# Altium integrated library NSC LDO.IntLib: 2590 symbols (part 47 of 64)
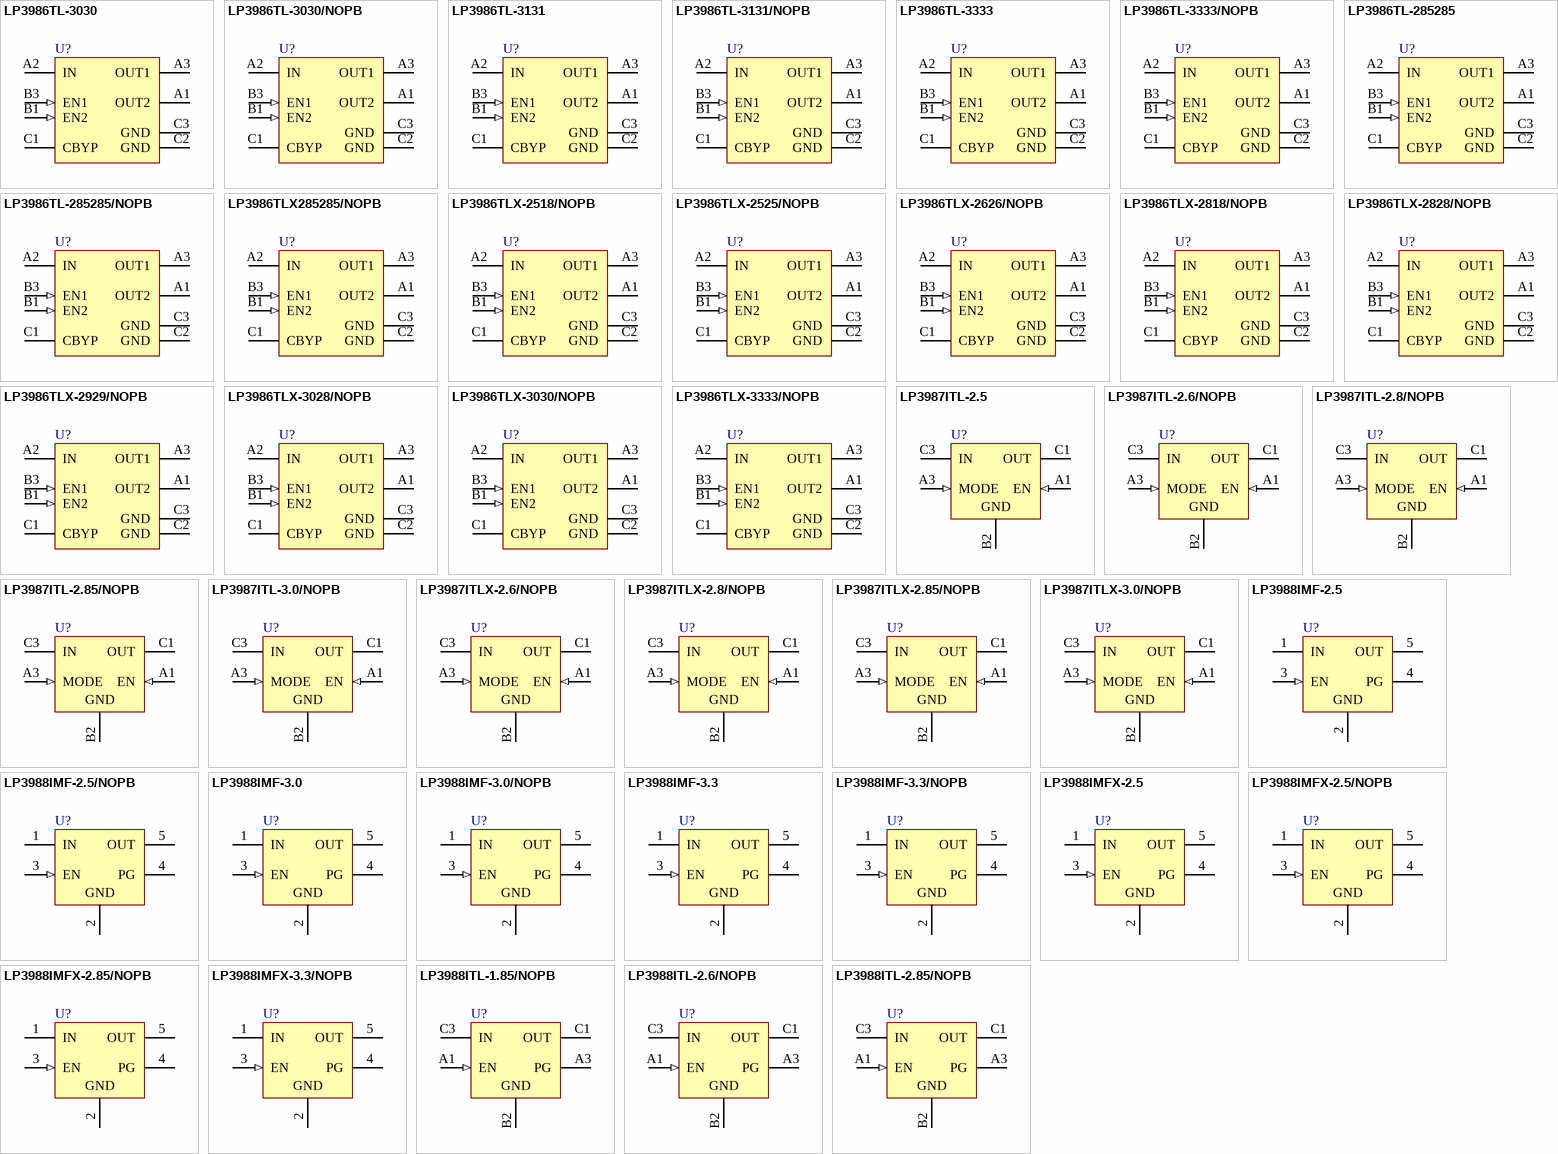
[diagram p111: symbols LP3986TL-3030 to LP3988ITL-2.85/NOPB]

## LP3986TLX-3333/NOPB
designator U?
Dual Micropower 150 mA Ultra Low-Dropout CMOS Voltage Regulators, 8-pin Micro SMD, Pb-Free; PartNumber: LP3986TLX-3333/NOPB; Manufacturer: National Semiconductor; PackageTopMarking: XVD*I 17; PowerWise: N; CompType: LDO IC; Published: 1-Mar-2010; DatasheetVersion: Feb-2007; PackageVersion: revC, Jan-2004; PackageReference: TLA08CCA; Publisher: Altium Limited; PackageDescription: Thin Micro SMD, 8 Bump (Large), 0.5mm Pitch; Supplier 1: Digi-Key; Supplier Part Number 1: LP3986TLX-3333-ND; RoHS: Y; PinCount: 8; Code_JEDEC: MO-211-DD; ComponentLink1Description: LP3986 Datasheet; ComponentLink1URL: http://www.national.com/ds/LP/LP3986.pdf; ComponentLink2Description: LP3986 Web Page; ComponentLink2URL: http://www.national.com/pf/LP/LP3986.html; ComponentLink3Description: TLA08CCA Package Page; ComponentLink3URL: http://www.national.com/packaging/folders/tla08cca.html
footprint TLA08CCA (Micro SMD, 8-Leads, Body 1.57x1.57mm, Pitch 0.5mm, NSC Recommended)
pins: A1 OUT2 (power), A2 IN (power), A3 OUT1 (power), B1 EN2 (in), B3 EN1 (in), C1 CBYP, C2 GND (power), C3 GND (power)

## LP3987ITL-2.5
designator U?
Micropower Micro SMD 150 mA Ultra Low-Dropout CMOS Voltage Regulators with Sleep MODE, 5-pin Micro SMD; PartNumber: LP3987ITL-2.5; Manufacturer: National Semiconductor; PackageTopMarking: XV*I 7; PowerWise: N; CompType: LDO IC; Published: 4-Dec-2008; DatasheetVersion: Feb-2007; PackageVersion: revC, Feb-2005; PackageReference: TLA05AEA; Publisher: Altium Limited; PackageDescription: Thin Micro SMD, 5 Bump (Large), 0.5mm Pitch; Supplier 1: Digi-Key; Supplier Part Number 1: LP3987ITL-2.5TR-ND; Supplier 2: Digi-Key; Supplier Part Number 2: LP3987ITL-2.5CT-ND; Supplier 3: Digi-Key; Supplier Part Number 3: LP3987ITL-2.5DKR-ND; RoHS: N; PinCount: 5; ComponentLink1Description: LP3987 Datasheet; ComponentLink1URL: http://www.national.com/ds/LP/LP3987.pdf; ComponentLink2Description: LP3987 Web Page; ComponentLink2URL: http://www.national.com/pf/LP/LP3987.html; ComponentLink3Description: TLA05AEA Package Page; ComponentLink3URL: http://www.national.com/packaging/folders/tla05aea.html
footprint TLA05AEA (Micro SMD, 5-Leads, Body 1.45x1.01mm, Pitch 0.5mm, NSC Recommended)
pins: A1 EN (in), A3 MODE (in), B2 GND (power), C1 OUT (power), C3 IN (power)

## LP3987ITL-2.6/NOPB
designator U?
Micropower Micro SMD 150 mA Ultra Low-Dropout CMOS Voltage Regulators with Sleep MODE, 5-pin Micro SMD, Pb-Free; PartNumber: LP3987ITL-2.6/NOPB; Manufacturer: National Semiconductor; PackageTopMarking: XV*I 7; PowerWise: Y; CompType: LDO IC; Published: 1-Mar-2010; DatasheetVersion: Feb-2007; PackageVersion: revC, Feb-2005; PackageReference: TLA05AEA; Publisher: Altium Limited; PackageDescription: Thin Micro SMD, 5 Bump (Large), 0.5mm Pitch; Supplier 1: Digi-Key; Supplier Part Number 1: LP3987ITL-2.6TR-ND; Supplier 2: Digi-Key; Supplier Part Number 2: LP3987ITL-2.6CT-ND; Supplier 3: Digi-Key; Supplier Part Number 3: LP3987ITL-2.6DKR-ND; RoHS: Y; PinCount: 5; ComponentLink1Description: LP3987 Datasheet; ComponentLink1URL: http://www.national.com/ds/LP/LP3987.pdf; ComponentLink2Description: LP3987 Web Page; ComponentLink2URL: http://www.national.com/pf/LP/LP3987.html; ComponentLink3Description: TLA05AEA Package Page; ComponentLink3URL: http://www.national.com/packaging/folders/tla05aea.html
footprint TLA05AEA (Micro SMD, 5-Leads, Body 1.45x1.01mm, Pitch 0.5mm, NSC Recommended)
pins: A1 EN (in), A3 MODE (in), B2 GND (power), C1 OUT (power), C3 IN (power)

## LP3987ITL-2.8/NOPB
designator U?
Micropower Micro SMD 150 mA Ultra Low-Dropout CMOS Voltage Regulators with Sleep MODE, 5-pin Micro SMD, Pb-Free; PartNumber: LP3987ITL-2.8/NOPB; Manufacturer: National Semiconductor; PackageTopMarking: XV*I 7; PowerWise: Y; CompType: LDO IC; Published: 1-Mar-2010; DatasheetVersion: Feb-2007; PackageVersion: revC, Feb-2005; PackageReference: TLA05AEA; Publisher: Altium Limited; PackageDescription: Thin Micro SMD, 5 Bump (Large), 0.5mm Pitch; Supplier 1: Digi-Key; Supplier Part Number 1: LP3987ITL-2.8TR-ND; Supplier 2: Digi-Key; Supplier Part Number 2: LP3987ITL-2.8CT-ND; Supplier 3: Digi-Key; Supplier Part Number 3: LP3987ITL-2.8DKR-ND; RoHS: Y; PinCount: 5; ComponentLink1Description: LP3987 Datasheet; ComponentLink1URL: http://www.national.com/ds/LP/LP3987.pdf; ComponentLink2Description: LP3987 Web Page; ComponentLink2URL: http://www.national.com/pf/LP/LP3987.html; ComponentLink3Description: TLA05AEA Package Page; ComponentLink3URL: http://www.national.com/packaging/folders/tla05aea.html
footprint TLA05AEA (Micro SMD, 5-Leads, Body 1.45x1.01mm, Pitch 0.5mm, NSC Recommended)
pins: A1 EN (in), A3 MODE (in), B2 GND (power), C1 OUT (power), C3 IN (power)

## LP3987ITL-2.85/NOPB
designator U?
Micropower Micro SMD 150 mA Ultra Low-Dropout CMOS Voltage Regulators with Sleep MODE, 5-pin Micro SMD, Pb-Free; PartNumber: LP3987ITL-2.85/NOPB; Manufacturer: National Semiconductor; PackageTopMarking: XV*I 7; PowerWise: Y; CompType: LDO IC; Published: 1-Mar-2010; DatasheetVersion: Feb-2007; PackageVersion: revC, Feb-2005; PackageReference: TLA05AEA; Publisher: Altium Limited; PackageDescription: Thin Micro SMD, 5 Bump (Large), 0.5mm Pitch; Supplier 1: Digi-Key; Supplier Part Number 1: LP3987ITL-2.85TR-ND; Supplier 2: Digi-Key; Supplier Part Number 2: LP3987ITL-2.85CT-ND; Supplier 3: Digi-Key; Supplier Part Number 3: LP3987ITL-2.85DKR-ND; RoHS: Y; PinCount: 5; ComponentLink1Description: LP3987 Datasheet; ComponentLink1URL: http://www.national.com/ds/LP/LP3987.pdf; ComponentLink2Description: LP3987 Web Page; ComponentLink2URL: http://www.national.com/pf/LP/LP3987.html; ComponentLink3Description: TLA05AEA Package Page; ComponentLink3URL: http://www.national.com/packaging/folders/tla05aea.html
footprint TLA05AEA (Micro SMD, 5-Leads, Body 1.45x1.01mm, Pitch 0.5mm, NSC Recommended)
pins: A1 EN (in), A3 MODE (in), B2 GND (power), C1 OUT (power), C3 IN (power)

## LP3987ITL-3.0/NOPB
designator U?
Micropower Micro SMD 150 mA Ultra Low-Dropout CMOS Voltage Regulators with Sleep MODE, 5-pin Micro SMD, Pb-Free; PartNumber: LP3987ITL-3.0/NOPB; Manufacturer: National Semiconductor; PackageTopMarking: XV*I 7; PowerWise: N; CompType: LDO IC; Published: 1-Mar-2010; DatasheetVersion: Feb-2007; PackageVersion: revC, Feb-2005; PackageReference: TLA05AEA; Publisher: Altium Limited; PackageDescription: Thin Micro SMD, 5 Bump (Large), 0.5mm Pitch; Supplier 1: Digi-Key; Supplier Part Number 1: LP3987ITL-3.0TR-ND; Supplier 2: Digi-Key; Supplier Part Number 2: LP3987ITL-3.0CT-ND; Supplier 3: Digi-Key; Supplier Part Number 3: LP3987ITL-3.0DKR-ND; RoHS: Y; PinCount: 5; ComponentLink1Description: LP3987 Datasheet; ComponentLink1URL: http://www.national.com/ds/LP/LP3987.pdf; ComponentLink2Description: LP3987 Web Page; ComponentLink2URL: http://www.national.com/pf/LP/LP3987.html; ComponentLink3Description: TLA05AEA Package Page; ComponentLink3URL: http://www.national.com/packaging/folders/tla05aea.html
footprint TLA05AEA (Micro SMD, 5-Leads, Body 1.45x1.01mm, Pitch 0.5mm, NSC Recommended)
pins: A1 EN (in), A3 MODE (in), B2 GND (power), C1 OUT (power), C3 IN (power)

## LP3987ITLX-2.6/NOPB
designator U?
Micropower Micro SMD 150 mA Ultra Low-Dropout CMOS Voltage Regulators with Sleep MODE, 5-pin Micro SMD, Pb-Free; PartNumber: LP3987ITLX-2.6/NOPB; Manufacturer: National Semiconductor; PackageTopMarking: XV*I 7; PowerWise: Y; CompType: LDO IC; Published: 1-Mar-2010; DatasheetVersion: Feb-2007; PackageVersion: revC, Feb-2005; PackageReference: TLA05AEA; Publisher: Altium Limited; PackageDescription: Thin Micro SMD, 5 Bump (Large), 0.5mm Pitch; Supplier 1: Digi-Key; Supplier Part Number 1: LP3987ITLX-2.6-ND; RoHS: Y; PinCount: 5; ComponentLink1Description: LP3987 Datasheet; ComponentLink1URL: http://www.national.com/ds/LP/LP3987.pdf; ComponentLink2Description: LP3987 Web Page; ComponentLink2URL: http://www.national.com/pf/LP/LP3987.html; ComponentLink3Description: TLA05AEA Package Page; ComponentLink3URL: http://www.national.com/packaging/folders/tla05aea.html
footprint TLA05AEA (Micro SMD, 5-Leads, Body 1.45x1.01mm, Pitch 0.5mm, NSC Recommended)
pins: A1 EN (in), A3 MODE (in), B2 GND (power), C1 OUT (power), C3 IN (power)

## LP3987ITLX-2.8/NOPB
designator U?
Micropower Micro SMD 150 mA Ultra Low-Dropout CMOS Voltage Regulators with Sleep MODE, 5-pin Micro SMD, Pb-Free; PartNumber: LP3987ITLX-2.8/NOPB; Manufacturer: National Semiconductor; PackageTopMarking: XV*I 7; PowerWise: Y; CompType: LDO IC; Published: 1-Mar-2010; DatasheetVersion: Feb-2007; PackageVersion: revC, Feb-2005; PackageReference: TLA05AEA; Publisher: Altium Limited; PackageDescription: Thin Micro SMD, 5 Bump (Large), 0.5mm Pitch; Supplier 1: Digi-Key; Supplier Part Number 1: LP3987ITLX-2.8-ND; RoHS: Y; PinCount: 5; ComponentLink1Description: LP3987 Datasheet; ComponentLink1URL: http://www.national.com/ds/LP/LP3987.pdf; ComponentLink2Description: LP3987 Web Page; ComponentLink2URL: http://www.national.com/pf/LP/LP3987.html; ComponentLink3Description: TLA05AEA Package Page; ComponentLink3URL: http://www.national.com/packaging/folders/tla05aea.html
footprint TLA05AEA (Micro SMD, 5-Leads, Body 1.45x1.01mm, Pitch 0.5mm, NSC Recommended)
pins: A1 EN (in), A3 MODE (in), B2 GND (power), C1 OUT (power), C3 IN (power)

## LP3987ITLX-2.85/NOPB
designator U?
Micropower Micro SMD 150 mA Ultra Low-Dropout CMOS Voltage Regulators with Sleep MODE, 5-pin Micro SMD, Pb-Free; PartNumber: LP3987ITLX-2.85/NOPB; Manufacturer: National Semiconductor; PackageTopMarking: XV*I 7; PowerWise: Y; CompType: LDO IC; Published: 1-Mar-2010; DatasheetVersion: Feb-2007; PackageVersion: revC, Feb-2005; PackageReference: TLA05AEA; Publisher: Altium Limited; PackageDescription: Thin Micro SMD, 5 Bump (Large), 0.5mm Pitch; Supplier 1: Digi-Key; Supplier Part Number 1: LP3987ITLX-2.85-ND; RoHS: Y; PinCount: 5; ComponentLink1Description: LP3987 Datasheet; ComponentLink1URL: http://www.national.com/ds/LP/LP3987.pdf; ComponentLink2Description: LP3987 Web Page; ComponentLink2URL: http://www.national.com/pf/LP/LP3987.html; ComponentLink3Description: TLA05AEA Package Page; ComponentLink3URL: http://www.national.com/packaging/folders/tla05aea.html
footprint TLA05AEA (Micro SMD, 5-Leads, Body 1.45x1.01mm, Pitch 0.5mm, NSC Recommended)
pins: A1 EN (in), A3 MODE (in), B2 GND (power), C1 OUT (power), C3 IN (power)

## LP3987ITLX-3.0/NOPB
designator U?
Micropower Micro SMD 150 mA Ultra Low-Dropout CMOS Voltage Regulators with Sleep MODE, 5-pin Micro SMD, Pb-Free; PartNumber: LP3987ITLX-3.0/NOPB; Manufacturer: National Semiconductor; PackageTopMarking: XV*I 7; PowerWise: N; CompType: LDO IC; Published: 1-Mar-2010; DatasheetVersion: Feb-2007; PackageVersion: revC, Feb-2005; PackageReference: TLA05AEA; Publisher: Altium Limited; PackageDescription: Thin Micro SMD, 5 Bump (Large), 0.5mm Pitch; Supplier 1: Digi-Key; Supplier Part Number 1: LP3987ITLX-3.0-ND; RoHS: Y; PinCount: 5; ComponentLink1Description: LP3987 Datasheet; ComponentLink1URL: http://www.national.com/ds/LP/LP3987.pdf; ComponentLink2Description: LP3987 Web Page; ComponentLink2URL: http://www.national.com/pf/LP/LP3987.html; ComponentLink3Description: TLA05AEA Package Page; ComponentLink3URL: http://www.national.com/packaging/folders/tla05aea.html
footprint TLA05AEA (Micro SMD, 5-Leads, Body 1.45x1.01mm, Pitch 0.5mm, NSC Recommended)
pins: A1 EN (in), A3 MODE (in), B2 GND (power), C1 OUT (power), C3 IN (power)

## LP3988IMF-2.5
designator U?
Micropower, 150mA Ultra Low-Dropout CMOS Voltage Regulator With Power Good, 5-pin SOT-23; PartNumber: LP3988IMF-2.5; Manufacturer: National Semiconductor; PackageTopMarking: LFSB*XTT; PowerWise: N; CompType: LDO IC; Published: 4-Dec-2008; DatasheetVersion: Aug-2004; PackageVersion: revD, Aug-2008; PackageReference: MF05A; Publisher: Altium Limited; PackageDescription: Molded SOT-23, .115 x .063 x .040 in Body, 5 Lead, .0375 in Pitch; RoHS: N; PinCount: 5; ComponentLink1Description: LP3988 Datasheet; ComponentLink1URL: http://www.national.com/ds/LP/LP3988.pdf; ComponentLink2Description: LP3988 Web Page; ComponentLink2URL: http://www.national.com/pf/LP/LP3988.html; ComponentLink3Description: MF05A Package Page; ComponentLink3URL: http://www.national.com/packaging/folders/mf05a.html
footprint MF05A_N (SOT23, 5-Leads, Body 2.9x1.6mm, Pitch 0.95mm, Lead Span 2.8mm, IPC Medium Density)
footprint MF05A_L (SOT23, 5-Leads, Body 2.9x1.6mm, Pitch 0.95mm, Lead Span 2.8mm, IPC High Density)
footprint MF05A_M (SOT23, 5-Leads, Body 2.9x1.6mm, Pitch 0.95mm, Lead Span 2.8mm, IPC Low Density)
pins: 1 IN (power), 2 GND (power), 3 EN (in), 4 PG (oc), 5 OUT (power)

## LP3988IMF-2.5/NOPB
designator U?
Micropower, 150mA Ultra Low-Dropout CMOS Voltage Regulator With Power Good, 5-pin SOT-23, Pb-Free; PartNumber: LP3988IMF-2.5/NOPB; Manufacturer: National Semiconductor; PackageTopMarking: LFSB*XTT; PowerWise: N; CompType: LDO IC; Published: 1-Mar-2010; DatasheetVersion: Aug-2004; PackageVersion: revD, Aug-2008; PackageReference: MF05A; Publisher: Altium Limited; PackageDescription: Molded SOT-23, .115 x .063 x .040 in Body, 5 Lead, .0375 in Pitch; Supplier 1: Digi-Key; Supplier Part Number 1: LP3988IMF-2.5TR-ND; Supplier 2: Digi-Key; Supplier Part Number 2: LP3988IMF-2.5CT-ND; Supplier 3: Digi-Key; Supplier Part Number 3: LP3988IMF-2.5DKR-ND; Supplier 4: Farnell; Supplier Part Number 4: 1685742; RoHS: Y; PinCount: 5; ComponentLink1Description: LP3988 Datasheet; ComponentLink1URL: http://www.national.com/ds/LP/LP3988.pdf; ComponentLink2Description: LP3988 Web Page; ComponentLink2URL: http://www.national.com/pf/LP/LP3988.html; ComponentLink3Description: MF05A Package Page; ComponentLink3URL: http://www.national.com/packaging/folders/mf05a.html
footprint MF05A_N (SOT23, 5-Leads, Body 2.9x1.6mm, Pitch 0.95mm, Lead Span 2.8mm, IPC Medium Density)
footprint MF05A_L (SOT23, 5-Leads, Body 2.9x1.6mm, Pitch 0.95mm, Lead Span 2.8mm, IPC High Density)
footprint MF05A_M (SOT23, 5-Leads, Body 2.9x1.6mm, Pitch 0.95mm, Lead Span 2.8mm, IPC Low Density)
pins: 1 IN (power), 2 GND (power), 3 EN (in), 4 PG (oc), 5 OUT (power)

## LP3988IMF-3.0
designator U?
Micropower, 150mA Ultra Low-Dropout CMOS Voltage Regulator With Power Good, 5-pin SOT-23; PartNumber: LP3988IMF-3.0; Manufacturer: National Semiconductor; PackageTopMarking: LFAB*XTT; PowerWise: N; CompType: LDO IC; Published: 4-Dec-2008; DatasheetVersion: Aug-2004; PackageVersion: revD, Aug-2008; PackageReference: MF05A; Publisher: Altium Limited; PackageDescription: Molded SOT-23, .115 x .063 x .040 in Body, 5 Lead, .0375 in Pitch; RoHS: N; PinCount: 5; ComponentLink1Description: LP3988 Datasheet; ComponentLink1URL: http://www.national.com/ds/LP/LP3988.pdf; ComponentLink2Description: LP3988 Web Page; ComponentLink2URL: http://www.national.com/pf/LP/LP3988.html; ComponentLink3Description: MF05A Package Page; ComponentLink3URL: http://www.national.com/packaging/folders/mf05a.html
footprint MF05A_N (SOT23, 5-Leads, Body 2.9x1.6mm, Pitch 0.95mm, Lead Span 2.8mm, IPC Medium Density)
footprint MF05A_L (SOT23, 5-Leads, Body 2.9x1.6mm, Pitch 0.95mm, Lead Span 2.8mm, IPC High Density)
footprint MF05A_M (SOT23, 5-Leads, Body 2.9x1.6mm, Pitch 0.95mm, Lead Span 2.8mm, IPC Low Density)
pins: 1 IN (power), 2 GND (power), 3 EN (in), 4 PG (oc), 5 OUT (power)

## LP3988IMF-3.0/NOPB
designator U?
Micropower, 150mA Ultra Low-Dropout CMOS Voltage Regulator With Power Good, 5-pin SOT-23, Pb-Free; PartNumber: LP3988IMF-3.0/NOPB; Manufacturer: National Semiconductor; PackageTopMarking: LFAB*XTT; PowerWise: N; CompType: LDO IC; Published: 1-Mar-2010; DatasheetVersion: Aug-2004; PackageVersion: revD, Aug-2008; PackageReference: MF05A; Publisher: Altium Limited; PackageDescription: Molded SOT-23, .115 x .063 x .040 in Body, 5 Lead, .0375 in Pitch; Supplier 1: Digi-Key; Supplier Part Number 1: LP3988IMF-3.0TR-ND; Supplier 2: Digi-Key; Supplier Part Number 2: LP3988IMF-3.0CT-ND; Supplier 3: Digi-Key; Supplier Part Number 3: LP3988IMF-3.0DKR-ND; Supplier 4: Farnell; Supplier Part Number 4: 1685553; RoHS: Y; PinCount: 5; ComponentLink1Description: LP3988 Datasheet; ComponentLink1URL: http://www.national.com/ds/LP/LP3988.pdf; ComponentLink2Description: LP3988 Web Page; ComponentLink2URL: http://www.national.com/pf/LP/LP3988.html; ComponentLink3Description: MF05A Package Page; ComponentLink3URL: http://www.national.com/packaging/folders/mf05a.html
footprint MF05A_N (SOT23, 5-Leads, Body 2.9x1.6mm, Pitch 0.95mm, Lead Span 2.8mm, IPC Medium Density)
footprint MF05A_L (SOT23, 5-Leads, Body 2.9x1.6mm, Pitch 0.95mm, Lead Span 2.8mm, IPC High Density)
footprint MF05A_M (SOT23, 5-Leads, Body 2.9x1.6mm, Pitch 0.95mm, Lead Span 2.8mm, IPC Low Density)
pins: 1 IN (power), 2 GND (power), 3 EN (in), 4 PG (oc), 5 OUT (power)

## LP3988IMF-3.3
designator U?
Micropower, 150mA Ultra Low-Dropout CMOS Voltage Regulator With Power Good, 5-pin SOT-23; PartNumber: LP3988IMF-3.3; Manufacturer: National Semiconductor; PackageTopMarking: LH5B*XTT; PowerWise: N; CompType: LDO IC; Published: 4-Dec-2008; DatasheetVersion: Aug-2004; PackageVersion: revD, Aug-2008; PackageReference: MF05A; Publisher: Altium Limited; PackageDescription: Molded SOT-23, .115 x .063 x .040 in Body, 5 Lead, .0375 in Pitch; RoHS: N; PinCount: 5; ComponentLink1Description: LP3988 Datasheet; ComponentLink1URL: http://www.national.com/ds/LP/LP3988.pdf; ComponentLink2Description: LP3988 Web Page; ComponentLink2URL: http://www.national.com/pf/LP/LP3988.html; ComponentLink3Description: MF05A Package Page; ComponentLink3URL: http://www.national.com/packaging/folders/mf05a.html
footprint MF05A_N (SOT23, 5-Leads, Body 2.9x1.6mm, Pitch 0.95mm, Lead Span 2.8mm, IPC Medium Density)
footprint MF05A_L (SOT23, 5-Leads, Body 2.9x1.6mm, Pitch 0.95mm, Lead Span 2.8mm, IPC High Density)
footprint MF05A_M (SOT23, 5-Leads, Body 2.9x1.6mm, Pitch 0.95mm, Lead Span 2.8mm, IPC Low Density)
pins: 1 IN (power), 2 GND (power), 3 EN (in), 4 PG (oc), 5 OUT (power)

## LP3988IMF-3.3/NOPB
designator U?
Micropower, 150mA Ultra Low-Dropout CMOS Voltage Regulator With Power Good, 5-pin SOT-23, Pb-Free; PartNumber: LP3988IMF-3.3/NOPB; Manufacturer: National Semiconductor; PackageTopMarking: LH5B*XTT; PowerWise: N; CompType: LDO IC; Published: 1-Mar-2010; DatasheetVersion: Aug-2004; PackageVersion: revD, Aug-2008; PackageReference: MF05A; Publisher: Altium Limited; PackageDescription: Molded SOT-23, .115 x .063 x .040 in Body, 5 Lead, .0375 in Pitch; Supplier 1: Digi-Key; Supplier Part Number 1: LP3988IMF-3.3TR-ND; Supplier 2: Digi-Key; Supplier Part Number 2: LP3988IMF-3.3CT-ND; Supplier 3: Digi-Key; Supplier Part Number 3: LP3988IMF-3.3DKR-ND; Supplier 4: Farnell; Supplier Part Number 4: 1685743; RoHS: Y; PinCount: 5; ComponentLink1Description: LP3988 Datasheet; ComponentLink1URL: http://www.national.com/ds/LP/LP3988.pdf; ComponentLink2Description: LP3988 Web Page; ComponentLink2URL: http://www.national.com/pf/LP/LP3988.html; ComponentLink3Description: MF05A Package Page; ComponentLink3URL: http://www.national.com/packaging/folders/mf05a.html
footprint MF05A_N (SOT23, 5-Leads, Body 2.9x1.6mm, Pitch 0.95mm, Lead Span 2.8mm, IPC Medium Density)
footprint MF05A_L (SOT23, 5-Leads, Body 2.9x1.6mm, Pitch 0.95mm, Lead Span 2.8mm, IPC High Density)
footprint MF05A_M (SOT23, 5-Leads, Body 2.9x1.6mm, Pitch 0.95mm, Lead Span 2.8mm, IPC Low Density)
pins: 1 IN (power), 2 GND (power), 3 EN (in), 4 PG (oc), 5 OUT (power)

## LP3988IMFX-2.5
designator U?
Micropower, 150mA Ultra Low-Dropout CMOS Voltage Regulator With Power Good, 5-pin SOT-23; PartNumber: LP3988IMFX-2.5; Manufacturer: National Semiconductor; PackageTopMarking: LFSB*XTT; PowerWise: N; CompType: LDO IC; Published: 1-Mar-2010; DatasheetVersion: Aug-2004; PackageVersion: revD, Aug-2008; PackageReference: MF05A; Publisher: Altium Limited; PackageDescription: Molded SOT-23, .115 x .063 x .040 in Body, 5 Lead, .0375 in Pitch; RoHS: N; PinCount: 5; ComponentLink1Description: LP3988 Datasheet; ComponentLink1URL: http://www.national.com/ds/LP/LP3988.pdf; ComponentLink2Description: LP3988 Web Page; ComponentLink2URL: http://www.national.com/pf/LP/LP3988.html; ComponentLink3Description: MF05A Package Page; ComponentLink3URL: http://www.national.com/packaging/folders/mf05a.html
footprint MF05A_N (SOT23, 5-Leads, Body 2.9x1.6mm, Pitch 0.95mm, Lead Span 2.8mm, IPC Medium Density)
footprint MF05A_L (SOT23, 5-Leads, Body 2.9x1.6mm, Pitch 0.95mm, Lead Span 2.8mm, IPC High Density)
footprint MF05A_M (SOT23, 5-Leads, Body 2.9x1.6mm, Pitch 0.95mm, Lead Span 2.8mm, IPC Low Density)
pins: 1 IN (power), 2 GND (power), 3 EN (in), 4 PG (oc), 5 OUT (power)

## LP3988IMFX-2.5/NOPB
designator U?
Micropower, 150mA Ultra Low-Dropout CMOS Voltage Regulator With Power Good, 5-pin SOT-23, Pb-Free; PartNumber: LP3988IMFX-2.5/NOPB; Manufacturer: National Semiconductor; PackageTopMarking: LFSB*XTT; PowerWise: N; CompType: LDO IC; Published: 1-Mar-2010; DatasheetVersion: Aug-2004; PackageVersion: revD, Aug-2008; PackageReference: MF05A; Publisher: Altium Limited; PackageDescription: Molded SOT-23, .115 x .063 x .040 in Body, 5 Lead, .0375 in Pitch; Supplier 1: Digi-Key; Supplier Part Number 1: LP3988IMFX-2.5-ND; RoHS: Y; PinCount: 5; ComponentLink1Description: LP3988 Datasheet; ComponentLink1URL: http://www.national.com/ds/LP/LP3988.pdf; ComponentLink2Description: LP3988 Web Page; ComponentLink2URL: http://www.national.com/pf/LP/LP3988.html; ComponentLink3Description: MF05A Package Page; ComponentLink3URL: http://www.national.com/packaging/folders/mf05a.html
footprint MF05A_N (SOT23, 5-Leads, Body 2.9x1.6mm, Pitch 0.95mm, Lead Span 2.8mm, IPC Medium Density)
footprint MF05A_L (SOT23, 5-Leads, Body 2.9x1.6mm, Pitch 0.95mm, Lead Span 2.8mm, IPC High Density)
footprint MF05A_M (SOT23, 5-Leads, Body 2.9x1.6mm, Pitch 0.95mm, Lead Span 2.8mm, IPC Low Density)
pins: 1 IN (power), 2 GND (power), 3 EN (in), 4 PG (oc), 5 OUT (power)

## LP3988IMFX-2.85/NOPB
designator U?
Micropower, 150mA Ultra Low-Dropout CMOS Voltage Regulator With Power Good, 5-pin SOT-23, Pb-Free; PartNumber: LP3988IMFX-2.85/NOPB; Manufacturer: National Semiconductor; PackageTopMarking: LDLB*XTT; PowerWise: N; CompType: LDO IC; Published: 1-Mar-2010; DatasheetVersion: Aug-2004; PackageVersion: revD, Aug-2008; PackageReference: MF05A; Publisher: Altium Limited; PackageDescription: Molded SOT-23, .115 x .063 x .040 in Body, 5 Lead, .0375 in Pitch; Supplier 1: Digi-Key; Supplier Part Number 1: LP3988IMFX-2.85-ND; RoHS: Y; PinCount: 5; ComponentLink1Description: LP3988 Datasheet; ComponentLink1URL: http://www.national.com/ds/LP/LP3988.pdf; ComponentLink2Description: LP3988 Web Page; ComponentLink2URL: http://www.national.com/pf/LP/LP3988.html; ComponentLink3Description: MF05A Package Page; ComponentLink3URL: http://www.national.com/packaging/folders/mf05a.html
footprint MF05A_N (SOT23, 5-Leads, Body 2.9x1.6mm, Pitch 0.95mm, Lead Span 2.8mm, IPC Medium Density)
footprint MF05A_L (SOT23, 5-Leads, Body 2.9x1.6mm, Pitch 0.95mm, Lead Span 2.8mm, IPC High Density)
footprint MF05A_M (SOT23, 5-Leads, Body 2.9x1.6mm, Pitch 0.95mm, Lead Span 2.8mm, IPC Low Density)
pins: 1 IN (power), 2 GND (power), 3 EN (in), 4 PG (oc), 5 OUT (power)

## LP3988IMFX-3.3/NOPB
designator U?
Micropower, 150mA Ultra Low-Dropout CMOS Voltage Regulator With Power Good, 5-pin SOT-23, Pb-Free; PartNumber: LP3988IMFX-3.3/NOPB; Manufacturer: National Semiconductor; PackageTopMarking: LH5B*XTT; PowerWise: N; CompType: LDO IC; Published: 1-Mar-2010; DatasheetVersion: Aug-2004; PackageVersion: revD, Aug-2008; PackageReference: MF05A; Publisher: Altium Limited; PackageDescription: Molded SOT-23, .115 x .063 x .040 in Body, 5 Lead, .0375 in Pitch; Supplier 1: Digi-Key; Supplier Part Number 1: LP3988IMFX-3.3-ND; RoHS: Y; PinCount: 5; ComponentLink1Description: LP3988 Datasheet; ComponentLink1URL: http://www.national.com/ds/LP/LP3988.pdf; ComponentLink2Description: LP3988 Web Page; ComponentLink2URL: http://www.national.com/pf/LP/LP3988.html; ComponentLink3Description: MF05A Package Page; ComponentLink3URL: http://www.national.com/packaging/folders/mf05a.html
footprint MF05A_N (SOT23, 5-Leads, Body 2.9x1.6mm, Pitch 0.95mm, Lead Span 2.8mm, IPC Medium Density)
footprint MF05A_L (SOT23, 5-Leads, Body 2.9x1.6mm, Pitch 0.95mm, Lead Span 2.8mm, IPC High Density)
footprint MF05A_M (SOT23, 5-Leads, Body 2.9x1.6mm, Pitch 0.95mm, Lead Span 2.8mm, IPC Low Density)
pins: 1 IN (power), 2 GND (power), 3 EN (in), 4 PG (oc), 5 OUT (power)

## LP3988ITL-1.85/NOPB
designator U?
Micropower, 150mA Ultra Low-Dropout CMOS Voltage Regulator With Power Good, 5-pin Micro SMD, Pb-Free; PartNumber: LP3988ITL-1.85/NOPB; Manufacturer: National Semiconductor; PackageTopMarking: XV*I 8; PowerWise: N; CompType: LDO IC; Published: 1-Mar-2010; DatasheetVersion: Aug-2004; PackageVersion: revC, Feb-2005; PackageReference: TLA05AEA; Publisher: Altium Limited; PackageDescription: Thin Micro SMD, 5 Bump (Large), 0.5mm Pitch; Supplier 1: Digi-Key; Supplier Part Number 1: LP3988ITL-1.85TR-ND; Supplier 2: Digi-Key; Supplier Part Number 2: LP3988ITL-1.85CT-ND; Supplier 3: Digi-Key; Supplier Part Number 3: LP3988ITL-1.85DKR-ND; RoHS: Y; PinCount: 5; ComponentLink1Description: LP3988 Datasheet; ComponentLink1URL: http://www.national.com/ds/LP/LP3988.pdf; ComponentLink2Description: LP3988 Web Page; ComponentLink2URL: http://www.national.com/pf/LP/LP3988.html; ComponentLink3Description: TLA05AEA Package Page; ComponentLink3URL: http://www.national.com/packaging/folders/tla05aea.html
footprint TLA05AEA (Micro SMD, 5-Leads, Body 1.45x1.01mm, Pitch 0.5mm, NSC Recommended)
pins: A1 EN (in), A3 PG (oc), B2 GND (power), C1 OUT (power), C3 IN (power)

## LP3988ITL-2.6/NOPB
designator U?
Micropower, 150mA Ultra Low-Dropout CMOS Voltage Regulator With Power Good, 5-pin Micro SMD, Pb-Free; PartNumber: LP3988ITL-2.6/NOPB; Manufacturer: National Semiconductor; PackageTopMarking: XV*I 8; PowerWise: N; CompType: LDO IC; Published: 1-Mar-2010; DatasheetVersion: Aug-2004; PackageVersion: revC, Feb-2005; PackageReference: TLA05AEA; Publisher: Altium Limited; PackageDescription: Thin Micro SMD, 5 Bump (Large), 0.5mm Pitch; Supplier 1: Digi-Key; Supplier Part Number 1: LP3988ITL-2.6TR-ND; Supplier 2: Digi-Key; Supplier Part Number 2: LP3988ITL-2.6CT-ND; Supplier 3: Digi-Key; Supplier Part Number 3: LP3988ITL-2.6DKR-ND; RoHS: Y; PinCount: 5; ComponentLink1Description: LP3988 Datasheet; ComponentLink1URL: http://www.national.com/ds/LP/LP3988.pdf; ComponentLink2Description: LP3988 Web Page; ComponentLink2URL: http://www.national.com/pf/LP/LP3988.html; ComponentLink3Description: TLA05AEA Package Page; ComponentLink3URL: http://www.national.com/packaging/folders/tla05aea.html
footprint TLA05AEA (Micro SMD, 5-Leads, Body 1.45x1.01mm, Pitch 0.5mm, NSC Recommended)
pins: A1 EN (in), A3 PG (oc), B2 GND (power), C1 OUT (power), C3 IN (power)

## LP3988ITL-2.85/NOPB
designator U?
Micropower, 150mA Ultra Low-Dropout CMOS Voltage Regulator With Power Good, 5-pin Micro SMD, Pb-Free; PartNumber: LP3988ITL-2.85/NOPB; Manufacturer: National Semiconductor; PackageTopMarking: XV*I 8; PowerWise: N; CompType: LDO IC; Published: 1-Mar-2010; DatasheetVersion: Aug-2004; PackageVersion: revC, Feb-2005; PackageReference: TLA05AEA; Publisher: Altium Limited; PackageDescription: Thin Micro SMD, 5 Bump (Large), 0.5mm Pitch; RoHS: Y; PinCount: 5; ComponentLink1Description: LP3988 Datasheet; ComponentLink1URL: http://www.national.com/ds/LP/LP3988.pdf; ComponentLink2Description: LP3988 Web Page; ComponentLink2URL: http://www.national.com/pf/LP/LP3988.html; ComponentLink3Description: TLA05AEA Package Page; ComponentLink3URL: http://www.national.com/packaging/folders/tla05aea.html
footprint TLA05AEA (Micro SMD, 5-Leads, Body 1.45x1.01mm, Pitch 0.5mm, NSC Recommended)
pins: A1 EN (in), A3 PG (oc), B2 GND (power), C1 OUT (power), C3 IN (power)

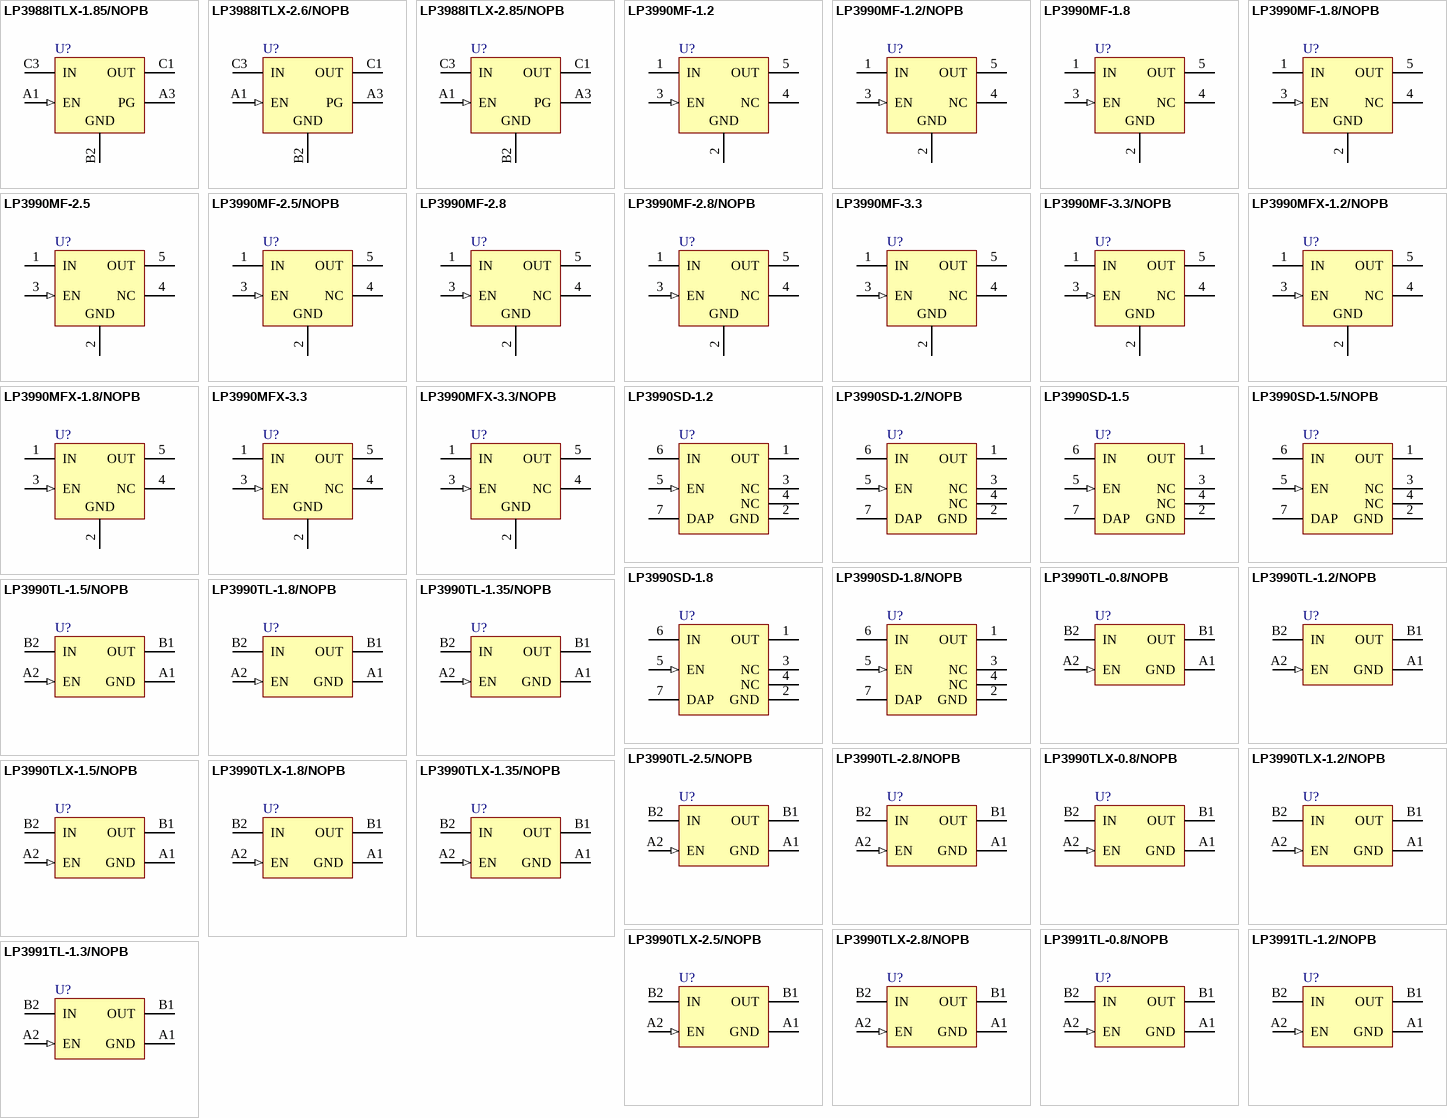
[diagram p48: symbols LP3988ITLX-1.85/NOPB to LP3991TL-1.3/NOPB]

## LP3988ITLX-1.85/NOPB
designator U?
Micropower, 150mA Ultra Low-Dropout CMOS Voltage Regulator With Power Good, 5-pin Micro SMD, Pb-Free; PartNumber: LP3988ITLX-1.85/NOPB; Manufacturer: National Semiconductor; PackageTopMarking: XV*I 8; PowerWise: N; CompType: LDO IC; Published: 1-Mar-2010; DatasheetVersion: Aug-2004; PackageVersion: revC, Feb-2005; PackageReference: TLA05AEA; Publisher: Altium Limited; PackageDescription: Thin Micro SMD, 5 Bump (Large), 0.5mm Pitch; Supplier 1: Digi-Key; Supplier Part Number 1: LP3988ITLX-1.85-ND; RoHS: Y; PinCount: 5; ComponentLink1Description: LP3988 Datasheet; ComponentLink1URL: http://www.national.com/ds/LP/LP3988.pdf; ComponentLink2Description: LP3988 Web Page; ComponentLink2URL: http://www.national.com/pf/LP/LP3988.html; ComponentLink3Description: TLA05AEA Package Page; ComponentLink3URL: http://www.national.com/packaging/folders/tla05aea.html
footprint TLA05AEA (Micro SMD, 5-Leads, Body 1.45x1.01mm, Pitch 0.5mm, NSC Recommended)
pins: A1 EN (in), A3 PG (oc), B2 GND (power), C1 OUT (power), C3 IN (power)

## LP3988ITLX-2.6/NOPB
designator U?
Micropower, 150mA Ultra Low-Dropout CMOS Voltage Regulator With Power Good, 5-pin Micro SMD, Pb-Free; PartNumber: LP3988ITLX-2.6/NOPB; Manufacturer: National Semiconductor; PackageTopMarking: XV*I 8; PowerWise: N; CompType: LDO IC; Published: 1-Mar-2010; DatasheetVersion: Aug-2004; PackageVersion: revC, Feb-2005; PackageReference: TLA05AEA; Publisher: Altium Limited; PackageDescription: Thin Micro SMD, 5 Bump (Large), 0.5mm Pitch; Supplier 1: Digi-Key; Supplier Part Number 1: LP3988ITLX-2.6-ND; RoHS: Y; PinCount: 5; ComponentLink1Description: LP3988 Datasheet; ComponentLink1URL: http://www.national.com/ds/LP/LP3988.pdf; ComponentLink2Description: LP3988 Web Page; ComponentLink2URL: http://www.national.com/pf/LP/LP3988.html; ComponentLink3Description: TLA05AEA Package Page; ComponentLink3URL: http://www.national.com/packaging/folders/tla05aea.html
footprint TLA05AEA (Micro SMD, 5-Leads, Body 1.45x1.01mm, Pitch 0.5mm, NSC Recommended)
pins: A1 EN (in), A3 PG (oc), B2 GND (power), C1 OUT (power), C3 IN (power)

## LP3988ITLX-2.85/NOPB
designator U?
Micropower, 150mA Ultra Low-Dropout CMOS Voltage Regulator With Power Good, 5-pin Micro SMD, Pb-Free; PartNumber: LP3988ITLX-2.85/NOPB; Manufacturer: National Semiconductor; PackageTopMarking: XV*I 8; PowerWise: N; CompType: LDO IC; Published: 1-Mar-2010; DatasheetVersion: Aug-2004; PackageVersion: revC, Feb-2005; PackageReference: TLA05AEA; Publisher: Altium Limited; PackageDescription: Thin Micro SMD, 5 Bump (Large), 0.5mm Pitch; Supplier 1: Digi-Key; Supplier Part Number 1: LP3988ITLX-2.85-ND; RoHS: Y; PinCount: 5; ComponentLink1Description: LP3988 Datasheet; ComponentLink1URL: http://www.national.com/ds/LP/LP3988.pdf; ComponentLink2Description: LP3988 Web Page; ComponentLink2URL: http://www.national.com/pf/LP/LP3988.html; ComponentLink3Description: TLA05AEA Package Page; ComponentLink3URL: http://www.national.com/packaging/folders/tla05aea.html
footprint TLA05AEA (Micro SMD, 5-Leads, Body 1.45x1.01mm, Pitch 0.5mm, NSC Recommended)
pins: A1 EN (in), A3 PG (oc), B2 GND (power), C1 OUT (power), C3 IN (power)

## LP3990MF-1.2
designator U?
150mA Linear Voltage Regulator for Digital Applications, 5-pin SOT-23; PartNumber: LP3990MF-1.2; Manufacturer: National Semiconductor; PackageTopMarking: SCDB*XTT; PowerWise: N; CompType: LDO IC; Published: 4-Dec-2008; DatasheetVersion: Oct-2006; PackageVersion: revD, Aug-2008; PackageReference: MF05A; Publisher: Altium Limited; PackageDescription: Molded SOT-23, .115 x .063 x .040 in Body, 5 Lead, .0375 in Pitch; Supplier 1: Farnell; Supplier Part Number 1: 1312626; RoHS: N; PinCount: 5; ComponentLink1Description: LP3990 Datasheet; ComponentLink1URL: http://www.national.com/ds/LP/LP3990.pdf; ComponentLink2Description: LP3990 Web Page; ComponentLink2URL: http://www.national.com/pf/LP/LP3990.html; ComponentLink3Description: MF05A Package Page; ComponentLink3URL: http://www.national.com/packaging/folders/mf05a.html
footprint MF05A_N (SOT23, 5-Leads, Body 2.9x1.6mm, Pitch 0.95mm, Lead Span 2.8mm, IPC Medium Density)
footprint MF05A_L (SOT23, 5-Leads, Body 2.9x1.6mm, Pitch 0.95mm, Lead Span 2.8mm, IPC High Density)
footprint MF05A_M (SOT23, 5-Leads, Body 2.9x1.6mm, Pitch 0.95mm, Lead Span 2.8mm, IPC Low Density)
pins: 1 IN (power), 2 GND (power), 3 EN (in), 4 NC, 5 OUT (power)

## LP3990MF-1.2/NOPB
designator U?
150mA Linear Voltage Regulator for Digital Applications, 5-pin SOT-23, Pb-Free; PartNumber: LP3990MF-1.2/NOPB; Manufacturer: National Semiconductor; PackageTopMarking: SCDB*XTT; PowerWise: N; CompType: LDO IC; Published: 1-Mar-2010; DatasheetVersion: Oct-2005; PackageVersion: revD, Aug-2008; PackageReference: MF05A; Publisher: Altium Limited; PackageDescription: Molded SOT-23, .115 x .063 x .040 in Body, 5 Lead, .0375 in Pitch; Supplier 1: Digi-Key; Supplier Part Number 1: LP3990MF-1.2TR-ND; Supplier 2: Digi-Key; Supplier Part Number 2: LP3990MF-1.2CT-ND; Supplier 3: Digi-Key; Supplier Part Number 3: LP3990MF-1.2DKR-ND; RoHS: Y; PinCount: 5; ComponentLink1Description: LP3990 Datasheet; ComponentLink1URL: http://www.national.com/ds/LP/LP3990.pdf; ComponentLink2Description: LP3990 Web Page; ComponentLink2URL: http://www.national.com/pf/LP/LP3990.html; ComponentLink3Description: MF05A Package Page; ComponentLink3URL: http://www.national.com/packaging/folders/mf05a.html
footprint MF05A_N (SOT23, 5-Leads, Body 2.9x1.6mm, Pitch 0.95mm, Lead Span 2.8mm, IPC Medium Density)
footprint MF05A_L (SOT23, 5-Leads, Body 2.9x1.6mm, Pitch 0.95mm, Lead Span 2.8mm, IPC High Density)
footprint MF05A_M (SOT23, 5-Leads, Body 2.9x1.6mm, Pitch 0.95mm, Lead Span 2.8mm, IPC Low Density)
pins: 1 IN (power), 2 GND (power), 3 EN (in), 4 NC, 5 OUT (power)

## LP3990MF-1.8
designator U?
150mA Linear Voltage Regulator for Digital Applications, 5-pin SOT-23; PartNumber: LP3990MF-1.8; Manufacturer: National Semiconductor; PackageTopMarking: SCFB*XTT; PowerWise: N; CompType: LDO IC; Published: 4-Dec-2008; DatasheetVersion: Oct-2005; PackageVersion: revD, Aug-2008; PackageReference: MF05A; Publisher: Altium Limited; PackageDescription: Molded SOT-23, .115 x .063 x .040 in Body, 5 Lead, .0375 in Pitch; Supplier 1: Farnell; Supplier Part Number 1: 1312628; RoHS: N; PinCount: 5; ComponentLink1Description: LP3990 Datasheet; ComponentLink1URL: http://www.national.com/ds/LP/LP3990.pdf; ComponentLink2Description: LP3990 Web Page; ComponentLink2URL: http://www.national.com/pf/LP/LP3990.html; ComponentLink3Description: MF05A Package Page; ComponentLink3URL: http://www.national.com/packaging/folders/mf05a.html
footprint MF05A_N (SOT23, 5-Leads, Body 2.9x1.6mm, Pitch 0.95mm, Lead Span 2.8mm, IPC Medium Density)
footprint MF05A_L (SOT23, 5-Leads, Body 2.9x1.6mm, Pitch 0.95mm, Lead Span 2.8mm, IPC High Density)
footprint MF05A_M (SOT23, 5-Leads, Body 2.9x1.6mm, Pitch 0.95mm, Lead Span 2.8mm, IPC Low Density)
pins: 1 IN (power), 2 GND (power), 3 EN (in), 4 NC, 5 OUT (power)

## LP3990MF-1.8/NOPB
designator U?
150mA Linear Voltage Regulator for Digital Applications, 5-pin SOT-23, Pb-Free; PartNumber: LP3990MF-1.8/NOPB; Manufacturer: National Semiconductor; PackageTopMarking: SCFB*XTT; PowerWise: N; CompType: LDO IC; Published: 1-Mar-2010; DatasheetVersion: Oct-2005; PackageVersion: revD, Aug-2008; PackageReference: MF05A; Publisher: Altium Limited; PackageDescription: Molded SOT-23, .115 x .063 x .040 in Body, 5 Lead, .0375 in Pitch; Supplier 1: Digi-Key; Supplier Part Number 1: LP3990MF-1.8TR-ND; Supplier 2: Digi-Key; Supplier Part Number 2: LP3990MF-1.8CT-ND; Supplier 3: Digi-Key; Supplier Part Number 3: LP3990MF-1.8DKR-ND; Supplier 4: Farnell; Supplier Part Number 4: 1496243; RoHS: Y; PinCount: 5; ComponentLink1Description: LP3990 Datasheet; ComponentLink1URL: http://www.national.com/ds/LP/LP3990.pdf; ComponentLink2Description: LP3990 Web Page; ComponentLink2URL: http://www.national.com/pf/LP/LP3990.html; ComponentLink3Description: MF05A Package Page; ComponentLink3URL: http://www.national.com/packaging/folders/mf05a.html
footprint MF05A_N (SOT23, 5-Leads, Body 2.9x1.6mm, Pitch 0.95mm, Lead Span 2.8mm, IPC Medium Density)
footprint MF05A_L (SOT23, 5-Leads, Body 2.9x1.6mm, Pitch 0.95mm, Lead Span 2.8mm, IPC High Density)
footprint MF05A_M (SOT23, 5-Leads, Body 2.9x1.6mm, Pitch 0.95mm, Lead Span 2.8mm, IPC Low Density)
pins: 1 IN (power), 2 GND (power), 3 EN (in), 4 NC, 5 OUT (power)

## LP3990MF-2.5
designator U?
150mA Linear Voltage Regulator for Digital Applications, 5-pin SOT-23; PartNumber: LP3990MF-2.5; Manufacturer: National Semiconductor; PackageTopMarking: SCJB*XTT; PowerWise: N; CompType: LDO IC; Published: 4-Dec-2008; DatasheetVersion: Oct-2005; PackageVersion: revD, Aug-2008; PackageReference: MF05A; Publisher: Altium Limited; PackageDescription: Molded SOT-23, .115 x .063 x .040 in Body, 5 Lead, .0375 in Pitch; Supplier 1: Farnell; Supplier Part Number 1: 1312629; RoHS: N; PinCount: 5; ComponentLink1Description: LP3990 Datasheet; ComponentLink1URL: http://www.national.com/ds/LP/LP3990.pdf; ComponentLink2Description: LP3990 Web Page; ComponentLink2URL: http://www.national.com/pf/LP/LP3990.html; ComponentLink3Description: MF05A Package Page; ComponentLink3URL: http://www.national.com/packaging/folders/mf05a.html
footprint MF05A_N (SOT23, 5-Leads, Body 2.9x1.6mm, Pitch 0.95mm, Lead Span 2.8mm, IPC Medium Density)
footprint MF05A_L (SOT23, 5-Leads, Body 2.9x1.6mm, Pitch 0.95mm, Lead Span 2.8mm, IPC High Density)
footprint MF05A_M (SOT23, 5-Leads, Body 2.9x1.6mm, Pitch 0.95mm, Lead Span 2.8mm, IPC Low Density)
pins: 1 IN (power), 2 GND (power), 3 EN (in), 4 NC, 5 OUT (power)

## LP3990MF-2.5/NOPB
designator U?
150mA Linear Voltage Regulator for Digital Applications, 5-pin SOT-23, Pb-Free; PartNumber: LP3990MF-2.5/NOPB; Manufacturer: National Semiconductor; PackageTopMarking: SCJB*XTT; PowerWise: N; CompType: LDO IC; Published: 1-Mar-2010; DatasheetVersion: Oct-2005; PackageVersion: revD, Aug-2008; PackageReference: MF05A; Publisher: Altium Limited; PackageDescription: Molded SOT-23, .115 x .063 x .040 in Body, 5 Lead, .0375 in Pitch; Supplier 1: Digi-Key; Supplier Part Number 1: LP3990MF-2.5TR-ND; Supplier 2: Digi-Key; Supplier Part Number 2: LP3990MF-2.5CT-ND; Supplier 3: Digi-Key; Supplier Part Number 3: LP3990MF-2.5DKR-ND; Supplier 4: Farnell; Supplier Part Number 4: 1559776; RoHS: Y; PinCount: 5; ComponentLink1Description: LP3990 Datasheet; ComponentLink1URL: http://www.national.com/ds/LP/LP3990.pdf; ComponentLink2Description: LP3990 Web Page; ComponentLink2URL: http://www.national.com/pf/LP/LP3990.html; ComponentLink3Description: MF05A Package Page; ComponentLink3URL: http://www.national.com/packaging/folders/mf05a.html
footprint MF05A_N (SOT23, 5-Leads, Body 2.9x1.6mm, Pitch 0.95mm, Lead Span 2.8mm, IPC Medium Density)
footprint MF05A_L (SOT23, 5-Leads, Body 2.9x1.6mm, Pitch 0.95mm, Lead Span 2.8mm, IPC High Density)
footprint MF05A_M (SOT23, 5-Leads, Body 2.9x1.6mm, Pitch 0.95mm, Lead Span 2.8mm, IPC Low Density)
pins: 1 IN (power), 2 GND (power), 3 EN (in), 4 NC, 5 OUT (power)

## LP3990MF-2.8
designator U?
150mA Linear Voltage Regulator for Digital Applications, 5-pin SOT-23; PartNumber: LP3990MF-2.8; Manufacturer: National Semiconductor; PackageTopMarking: SCKB*XTT; PowerWise: N; CompType: LDO IC; Published: 4-Dec-2008; DatasheetVersion: Oct-2005; PackageVersion: revD, Aug-2008; PackageReference: MF05A; Publisher: Altium Limited; PackageDescription: Molded SOT-23, .115 x .063 x .040 in Body, 5 Lead, .0375 in Pitch; Supplier 1: Farnell; Supplier Part Number 1: 1312630; RoHS: N; PinCount: 5; ComponentLink1Description: LP3990 Datasheet; ComponentLink1URL: http://www.national.com/ds/LP/LP3990.pdf; ComponentLink2Description: LP3990 Web Page; ComponentLink2URL: http://www.national.com/pf/LP/LP3990.html; ComponentLink3Description: MF05A Package Page; ComponentLink3URL: http://www.national.com/packaging/folders/mf05a.html
footprint MF05A_N (SOT23, 5-Leads, Body 2.9x1.6mm, Pitch 0.95mm, Lead Span 2.8mm, IPC Medium Density)
footprint MF05A_L (SOT23, 5-Leads, Body 2.9x1.6mm, Pitch 0.95mm, Lead Span 2.8mm, IPC High Density)
footprint MF05A_M (SOT23, 5-Leads, Body 2.9x1.6mm, Pitch 0.95mm, Lead Span 2.8mm, IPC Low Density)
pins: 1 IN (power), 2 GND (power), 3 EN (in), 4 NC, 5 OUT (power)

## LP3990MF-2.8/NOPB
designator U?
150mA Linear Voltage Regulator for Digital Applications, 5-pin SOT-23, Pb-Free; PartNumber: LP3990MF-2.8/NOPB; Manufacturer: National Semiconductor; PackageTopMarking: SCKB*XTT; PowerWise: N; CompType: LDO IC; Published: 1-Mar-2010; DatasheetVersion: Oct-2005; PackageVersion: revD, Aug-2008; PackageReference: MF05A; Publisher: Altium Limited; PackageDescription: Molded SOT-23, .115 x .063 x .040 in Body, 5 Lead, .0375 in Pitch; Supplier 1: Digi-Key; Supplier Part Number 1: LP3990MF-2.8TR-ND; Supplier 2: Digi-Key; Supplier Part Number 2: LP3990MF-2.8CT-ND; Supplier 3: Digi-Key; Supplier Part Number 3: LP3990MF-2.8DKR-ND; RoHS: Y; PinCount: 5; ComponentLink1Description: LP3990 Datasheet; ComponentLink1URL: http://www.national.com/ds/LP/LP3990.pdf; ComponentLink2Description: LP3990 Web Page; ComponentLink2URL: http://www.national.com/pf/LP/LP3990.html; ComponentLink3Description: MF05A Package Page; ComponentLink3URL: http://www.national.com/packaging/folders/mf05a.html
footprint MF05A_N (SOT23, 5-Leads, Body 2.9x1.6mm, Pitch 0.95mm, Lead Span 2.8mm, IPC Medium Density)
footprint MF05A_L (SOT23, 5-Leads, Body 2.9x1.6mm, Pitch 0.95mm, Lead Span 2.8mm, IPC High Density)
footprint MF05A_M (SOT23, 5-Leads, Body 2.9x1.6mm, Pitch 0.95mm, Lead Span 2.8mm, IPC Low Density)
pins: 1 IN (power), 2 GND (power), 3 EN (in), 4 NC, 5 OUT (power)

## LP3990MF-3.3
designator U?
150mA Linear Voltage Regulator for Digital Applications, 5-pin SOT-23; PartNumber: LP3990MF-3.3; Manufacturer: National Semiconductor; PackageTopMarking: SCLB*XTT; PowerWise: N; CompType: LDO IC; Published: 4-Dec-2008; DatasheetVersion: Oct-2005; PackageVersion: revD, Aug-2008; PackageReference: MF05A; Publisher: Altium Limited; PackageDescription: Molded SOT-23, .115 x .063 x .040 in Body, 5 Lead, .0375 in Pitch; Supplier 1: Farnell; Supplier Part Number 1: 1312631; RoHS: N; PinCount: 5; ComponentLink1Description: LP3990 Datasheet; ComponentLink1URL: http://www.national.com/ds/LP/LP3990.pdf; ComponentLink2Description: LP3990 Web Page; ComponentLink2URL: http://www.national.com/pf/LP/LP3990.html; ComponentLink3Description: MF05A Package Page; ComponentLink3URL: http://www.national.com/packaging/folders/mf05a.html
footprint MF05A_N (SOT23, 5-Leads, Body 2.9x1.6mm, Pitch 0.95mm, Lead Span 2.8mm, IPC Medium Density)
footprint MF05A_L (SOT23, 5-Leads, Body 2.9x1.6mm, Pitch 0.95mm, Lead Span 2.8mm, IPC High Density)
footprint MF05A_M (SOT23, 5-Leads, Body 2.9x1.6mm, Pitch 0.95mm, Lead Span 2.8mm, IPC Low Density)
pins: 1 IN (power), 2 GND (power), 3 EN (in), 4 NC, 5 OUT (power)

## LP3990MF-3.3/NOPB
designator U?
150mA Linear Voltage Regulator for Digital Applications, 5-pin SOT-23, Pb-Free; PartNumber: LP3990MF-3.3/NOPB; Manufacturer: National Semiconductor; PackageTopMarking: SCLB*XTT; PowerWise: N; CompType: LDO IC; Published: 1-Mar-2010; DatasheetVersion: Oct-2005; PackageVersion: revD, Aug-2008; PackageReference: MF05A; Publisher: Altium Limited; PackageDescription: Molded SOT-23, .115 x .063 x .040 in Body, 5 Lead, .0375 in Pitch; Supplier 1: Digi-Key; Supplier Part Number 1: LP3990MF-3.3TR-ND; Supplier 2: Digi-Key; Supplier Part Number 2: LP3990MF-3.3CT-ND; Supplier 3: Digi-Key; Supplier Part Number 3: LP3990MF-3.3DKR-ND; Supplier 4: Farnell; Supplier Part Number 4: 1685762; RoHS: Y; PinCount: 5; ComponentLink1Description: LP3990 Datasheet; ComponentLink1URL: http://www.national.com/ds/LP/LP3990.pdf; ComponentLink2Description: LP3990 Web Page; ComponentLink2URL: http://www.national.com/pf/LP/LP3990.html; ComponentLink3Description: MF05A Package Page; ComponentLink3URL: http://www.national.com/packaging/folders/mf05a.html
footprint MF05A_N (SOT23, 5-Leads, Body 2.9x1.6mm, Pitch 0.95mm, Lead Span 2.8mm, IPC Medium Density)
footprint MF05A_L (SOT23, 5-Leads, Body 2.9x1.6mm, Pitch 0.95mm, Lead Span 2.8mm, IPC High Density)
footprint MF05A_M (SOT23, 5-Leads, Body 2.9x1.6mm, Pitch 0.95mm, Lead Span 2.8mm, IPC Low Density)
pins: 1 IN (power), 2 GND (power), 3 EN (in), 4 NC, 5 OUT (power)

## LP3990MFX-1.2/NOPB
designator U?
150mA Linear Voltage Regulator for Digital Applications, 5-pin SOT-23, Pb-Free; PartNumber: LP3990MFX-1.2/NOPB; Manufacturer: National Semiconductor; PackageTopMarking: SCDB*XTT; PowerWise: N; CompType: LDO IC; Published: 1-Mar-2010; DatasheetVersion: Oct-2005; PackageVersion: revD, Aug-2008; PackageReference: MF05A; Publisher: Altium Limited; PackageDescription: Molded SOT-23, .115 x .063 x .040 in Body, 5 Lead, .0375 in Pitch; Supplier 1: Digi-Key; Supplier Part Number 1: LP3990MFX-1.2-ND; RoHS: Y; PinCount: 5; ComponentLink1Description: LP3990 Datasheet; ComponentLink1URL: http://www.national.com/ds/LP/LP3990.pdf; ComponentLink2Description: LP3990 Web Page; ComponentLink2URL: http://www.national.com/pf/LP/LP3990.html; ComponentLink3Description: MF05A Package Page; ComponentLink3URL: http://www.national.com/packaging/folders/mf05a.html
footprint MF05A_N (SOT23, 5-Leads, Body 2.9x1.6mm, Pitch 0.95mm, Lead Span 2.8mm, IPC Medium Density)
footprint MF05A_L (SOT23, 5-Leads, Body 2.9x1.6mm, Pitch 0.95mm, Lead Span 2.8mm, IPC High Density)
footprint MF05A_M (SOT23, 5-Leads, Body 2.9x1.6mm, Pitch 0.95mm, Lead Span 2.8mm, IPC Low Density)
pins: 1 IN (power), 2 GND (power), 3 EN (in), 4 NC, 5 OUT (power)

## LP3990MFX-1.8/NOPB
designator U?
150mA Linear Voltage Regulator for Digital Applications, 5-pin SOT-23, Pb-Free; PartNumber: LP3990MFX-1.8/NOPB; Manufacturer: National Semiconductor; PackageTopMarking: SCFB*XTT; PowerWise: N; CompType: LDO IC; Published: 1-Mar-2010; DatasheetVersion: Oct-2005; PackageVersion: revD, Aug-2008; PackageReference: MF05A; Publisher: Altium Limited; PackageDescription: Molded SOT-23, .115 x .063 x .040 in Body, 5 Lead, .0375 in Pitch; Supplier 1: Digi-Key; Supplier Part Number 1: LP3990MFX-1.8-ND; RoHS: Y; PinCount: 5; ComponentLink1Description: LP3990 Datasheet; ComponentLink1URL: http://www.national.com/ds/LP/LP3990.pdf; ComponentLink2Description: LP3990 Web Page; ComponentLink2URL: http://www.national.com/pf/LP/LP3990.html; ComponentLink3Description: MF05A Package Page; ComponentLink3URL: http://www.national.com/packaging/folders/mf05a.html
footprint MF05A_N (SOT23, 5-Leads, Body 2.9x1.6mm, Pitch 0.95mm, Lead Span 2.8mm, IPC Medium Density)
footprint MF05A_L (SOT23, 5-Leads, Body 2.9x1.6mm, Pitch 0.95mm, Lead Span 2.8mm, IPC High Density)
footprint MF05A_M (SOT23, 5-Leads, Body 2.9x1.6mm, Pitch 0.95mm, Lead Span 2.8mm, IPC Low Density)
pins: 1 IN (power), 2 GND (power), 3 EN (in), 4 NC, 5 OUT (power)

## LP3990MFX-3.3
designator U?
150mA Linear Voltage Regulator for Digital Applications, 5-pin SOT-23; PartNumber: LP3990MFX-3.3; Manufacturer: National Semiconductor; PackageTopMarking: SCLB*XTT; PowerWise: N; CompType: LDO IC; Published: 1-Mar-2010; DatasheetVersion: Oct-2005; PackageVersion: revD, Aug-2008; PackageReference: MF05A; Publisher: Altium Limited; PackageDescription: Molded SOT-23, .115 x .063 x .040 in Body, 5 Lead, .0375 in Pitch; RoHS: N; PinCount: 5; ComponentLink1Description: LP3990 Datasheet; ComponentLink1URL: http://www.national.com/ds/LP/LP3990.pdf; ComponentLink2Description: LP3990 Web Page; ComponentLink2URL: http://www.national.com/pf/LP/LP3990.html; ComponentLink3Description: MF05A Package Page; ComponentLink3URL: http://www.national.com/packaging/folders/mf05a.html
footprint MF05A_N (SOT23, 5-Leads, Body 2.9x1.6mm, Pitch 0.95mm, Lead Span 2.8mm, IPC Medium Density)
footprint MF05A_L (SOT23, 5-Leads, Body 2.9x1.6mm, Pitch 0.95mm, Lead Span 2.8mm, IPC High Density)
footprint MF05A_M (SOT23, 5-Leads, Body 2.9x1.6mm, Pitch 0.95mm, Lead Span 2.8mm, IPC Low Density)
pins: 1 IN (power), 2 GND (power), 3 EN (in), 4 NC, 5 OUT (power)

## LP3990MFX-3.3/NOPB
designator U?
150mA Linear Voltage Regulator for Digital Applications, 5-pin SOT-23, Pb-Free; PartNumber: LP3990MFX-3.3/NOPB; Manufacturer: National Semiconductor; PackageTopMarking: SCLB*XTT; PowerWise: N; CompType: LDO IC; Published: 1-Mar-2010; DatasheetVersion: Oct-2005; PackageVersion: revD, Aug-2008; PackageReference: MF05A; Publisher: Altium Limited; PackageDescription: Molded SOT-23, .115 x .063 x .040 in Body, 5 Lead, .0375 in Pitch; Supplier 1: Digi-Key; Supplier Part Number 1: LP3990MFX-3.3-ND; RoHS: Y; PinCount: 5; ComponentLink1Description: LP3990 Datasheet; ComponentLink1URL: http://www.national.com/ds/LP/LP3990.pdf; ComponentLink2Description: LP3990 Web Page; ComponentLink2URL: http://www.national.com/pf/LP/LP3990.html; ComponentLink3Description: MF05A Package Page; ComponentLink3URL: http://www.national.com/packaging/folders/mf05a.html
footprint MF05A_N (SOT23, 5-Leads, Body 2.9x1.6mm, Pitch 0.95mm, Lead Span 2.8mm, IPC Medium Density)
footprint MF05A_L (SOT23, 5-Leads, Body 2.9x1.6mm, Pitch 0.95mm, Lead Span 2.8mm, IPC High Density)
footprint MF05A_M (SOT23, 5-Leads, Body 2.9x1.6mm, Pitch 0.95mm, Lead Span 2.8mm, IPC Low Density)
pins: 1 IN (power), 2 GND (power), 3 EN (in), 4 NC, 5 OUT (power)